# EAGLE library part B50(27-51)FP4-151-A613-B12 (library Domino)
Single Port RJ45 100Base-T with PoE, Transformer, 1 Magnetic Ring, 15 Pins, 3 LEDs (Left Orange/Green, Right Yellow) Without Shielding Shell Shrapnel, 3µ Gold, Pin Back, PA66 material, No Logo
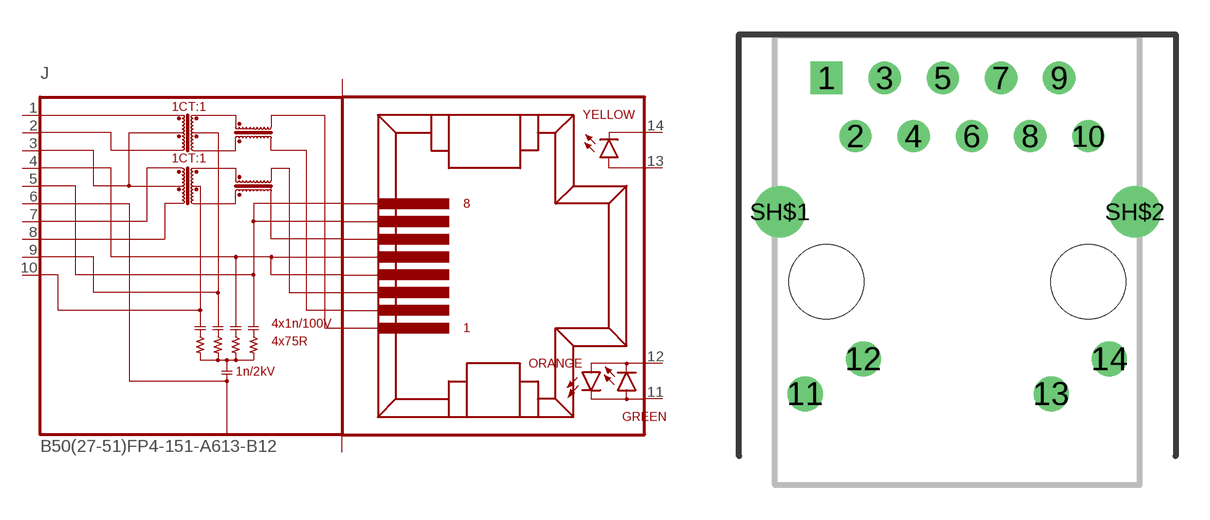
[diagram p12: symbol with the pads of B50(27-51)FP4-151-A613-B12; footprint B50(27-51)FP4-151-A613-B12]

Designator prefix J

## B50(27-51)FP4-151-A613-B12  [B50(27-51)FP4-151-A613-B12]
1  1  pas
2  2  pas
3  3  pas
4  4  pas
5  5  pas
6  6  pwr
7  7  pas
8  8  pas
9  9  pas
10  10  pas
11  11  pas
12  12  pas
13  13  pas
14  14  pas
SH$1  SHIELD  pwr
SH$2  SHIELD  pwr

## Footprint B50(27-51)FP4-151-A613-B12 (pad centres in mm)
Single Port RJ45 100Base-T with PoE, Transformer, 1 Magnetic Ring, 15 Pins, 3 LEDs (Left Orange/Green, Right Yellow) Without Shielding Shell Shrapnel, 3µ Gold, Pin Back, PA66 material, No Logo
drill 0.9 square: 1 -5.715,8.89
drill 0.9: 2 -4.445,6.35; 3 -3.175,8.89; 4 -1.905,6.35; 5 -0.635,8.89; 6 0.635,6.35; 7 1.905,8.89; 8 3.175,6.35; 9 4.445,8.89; 10 5.715,6.35
drill 1.02: 11 -6.64,-4.9; 12 -4.1,-3.38; 13 4.1,-4.9; 14 6.64,-3.38
drill 1.5: SH$1 -7.75,3.05; SH$2 7.75,3.05
hole 3.25 at -5.715,0
hole 3.25 at 5.715,0